# EAGLE library part MD13S (library Module)
13Amp DC Motor Driver (MD13S) Created by: Wai Weng
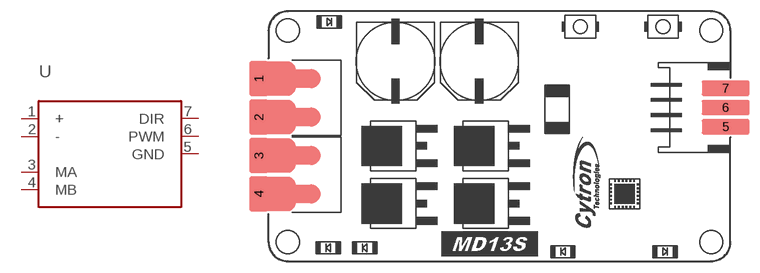
[diagram p8: symbol with the pads of MD13S; footprint MD13S]

Designator prefix -

## MD13S (CYTRON-PC: MD13S; DESC: 13Amp DC Motor Driver - GROVE Compatible; MF: Cytron; MPN: MD13S)  [MD13S]
1  +
2  -
3  MA
4  MB
5  GND
6  PWM
7  DIR

## Footprint MD13S (pad centres in mm)
13Amp DC Motor Driver (MD13S) Created by: Wai Weng
smd 2.54 x 4.572: 1 -1.27,24.13; 2 -1.27,19.05; 3 -1.27,13.97; 4 -1.27,8.89
smd 6.35 x 2.032: 5 60.325,17.78; 6 60.325,20.32; 7 60.325,22.86